# EAGLE library part MOLEX_0781710005 (library molex-pico-ezmate)
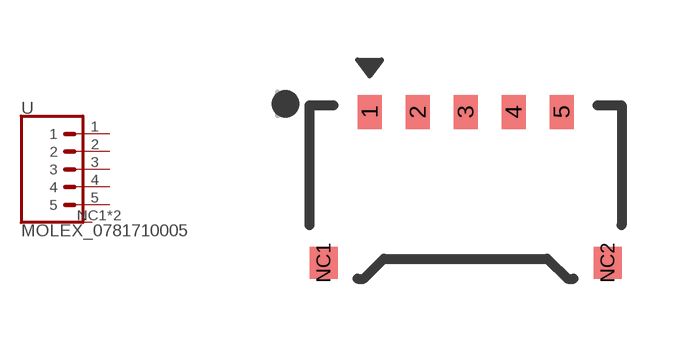
[diagram p0: symbol with the pads of MOLEX_781710005; footprint MOLEX_781710005]

Designator prefix -

## MOLEX_0781710005  [MOLEX_781710005]
1  1  pwr
2  2  pas
3  3  pas
4  4  pwr
5  5  pwr
NC1  M
NC2  M

## Footprint MOLEX_781710005 (pad centres in mm)
smd 0.6 x 0.85: 1 -2.4,2; 2 -1.2,2; 3 0,2; 4 1.2,2; 5 2.4,2
smd 0.7 x 0.8: NC1 -3.55,-1.775; NC2 3.55,-1.775